# Altium integrated library PIC18F4550-I_PT.IntLib: 1 symbol
Pins are listed as number, name and electrical type; pins without a type are passive.

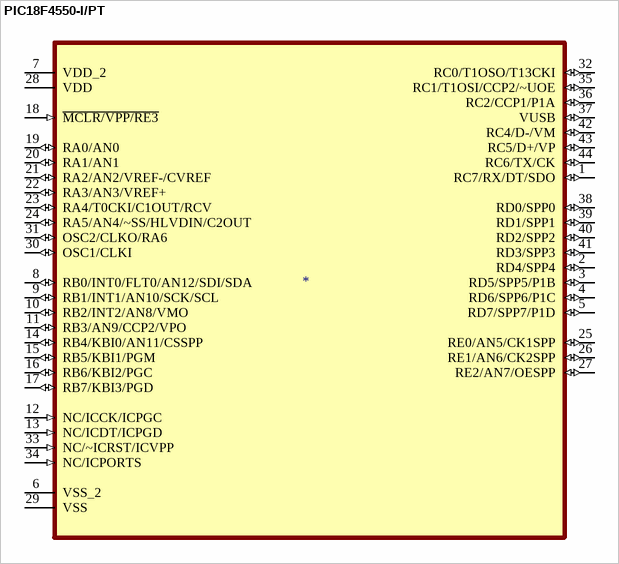
[diagram p0: symbol PIC18F4550-I/PT]

## PIC18F4550-I/PT
designator ?
PIC PICÂ® 18F Microcontroller IC 8-Bit 48MHz 32KB _16K x 16_ FLASH 44-TQFP _10x10_; MP: PIC18F4550-I/PT; MF: Microchip; Package: TQFP-44 Microchip; Price: None; Value: *; SnapEDA_Link: https://www.snapeda.com/parts/PIC18F4550-I/PT/Microchip/view-part/4713/?ref=snap; Availability: Unavailable
footprint QFP80P1200X1200X120-44N
pins: 1 RC7/RX/DT/SDO (io), 2 RD4/SPP4 (io), 3 RD5/SPP5/P1B (io), 4 RD6/SPP6/P1C (io), 5 RD7/SPP7/P1D (io), 6 VSS_2 (power), 7 VDD_2 (power), 8 RB0/INT0/FLT0/AN12/SDI/SDA (io), 9 RB1/INT1/AN10/SCK/SCL (io), 10 RB2/INT2/AN8/VMO (io), 11 RB3/AN9/CCP2/VPO (io), 12 NC/ICCK/ICPGC (in), 13 NC/ICDT/ICPGD (in), 14 RB4/KBI0/AN11/CSSPP (io), 15 RB5/KBI1/PGM (io), 16 RB6/KBI2/PGC (io), 17 RB7/KBI3/PGD (io), 18 ~{MCLR/VPP/RE3} (in), 19 RA0/AN0 (io), 20 RA1/AN1 (io), 21 RA2/AN2/VREF-/CVREF (io), 22 RA3/AN3/VREF+ (io), 23 RA4/T0CKI/C1OUT/RCV (io), 24 RA5/AN4/~SS/HLVDIN/C2OUT (io), 25 RE0/AN5/CK1SPP (io), 26 RE1/AN6/CK2SPP (io), 27 RE2/AN7/OESPP (io), 28 VDD (power), 29 VSS (power), 30 OSC1/CLKI (io), 31 OSC2/CLKO/RA6 (io), 32 RC0/T1OSO/T13CKI (io), 33 NC/~ICRST/ICVPP (in), 34 NC/ICPORTS (in), 35 RC1/T1OSI/CCP2/~UOE (io), 36 RC2/CCP1/P1A (io), 37 VUSB (io), 38 RD0/SPP0 (io), 39 RD1/SPP1 (io), 40 RD2/SPP2 (io), 41 RD3/SPP3 (io), 42 RC4/D-/VM (io), 43 RC5/D+/VP (io), 44 RC6/TX/CK (io)